# Altium footprint library Flow_Pump.PcbLib: 52 footprints (part 3 of 4)
Each footprint in its own frame and in the unit in brackets; x right, y up, seen from the top. Pads: shape width x height; smd on the part's side, far side on the other; paste and mask are expansions set on the pad; w line width, h text height; cw(c..) or ccw(c..) is an arc to the next point about the centre after c.
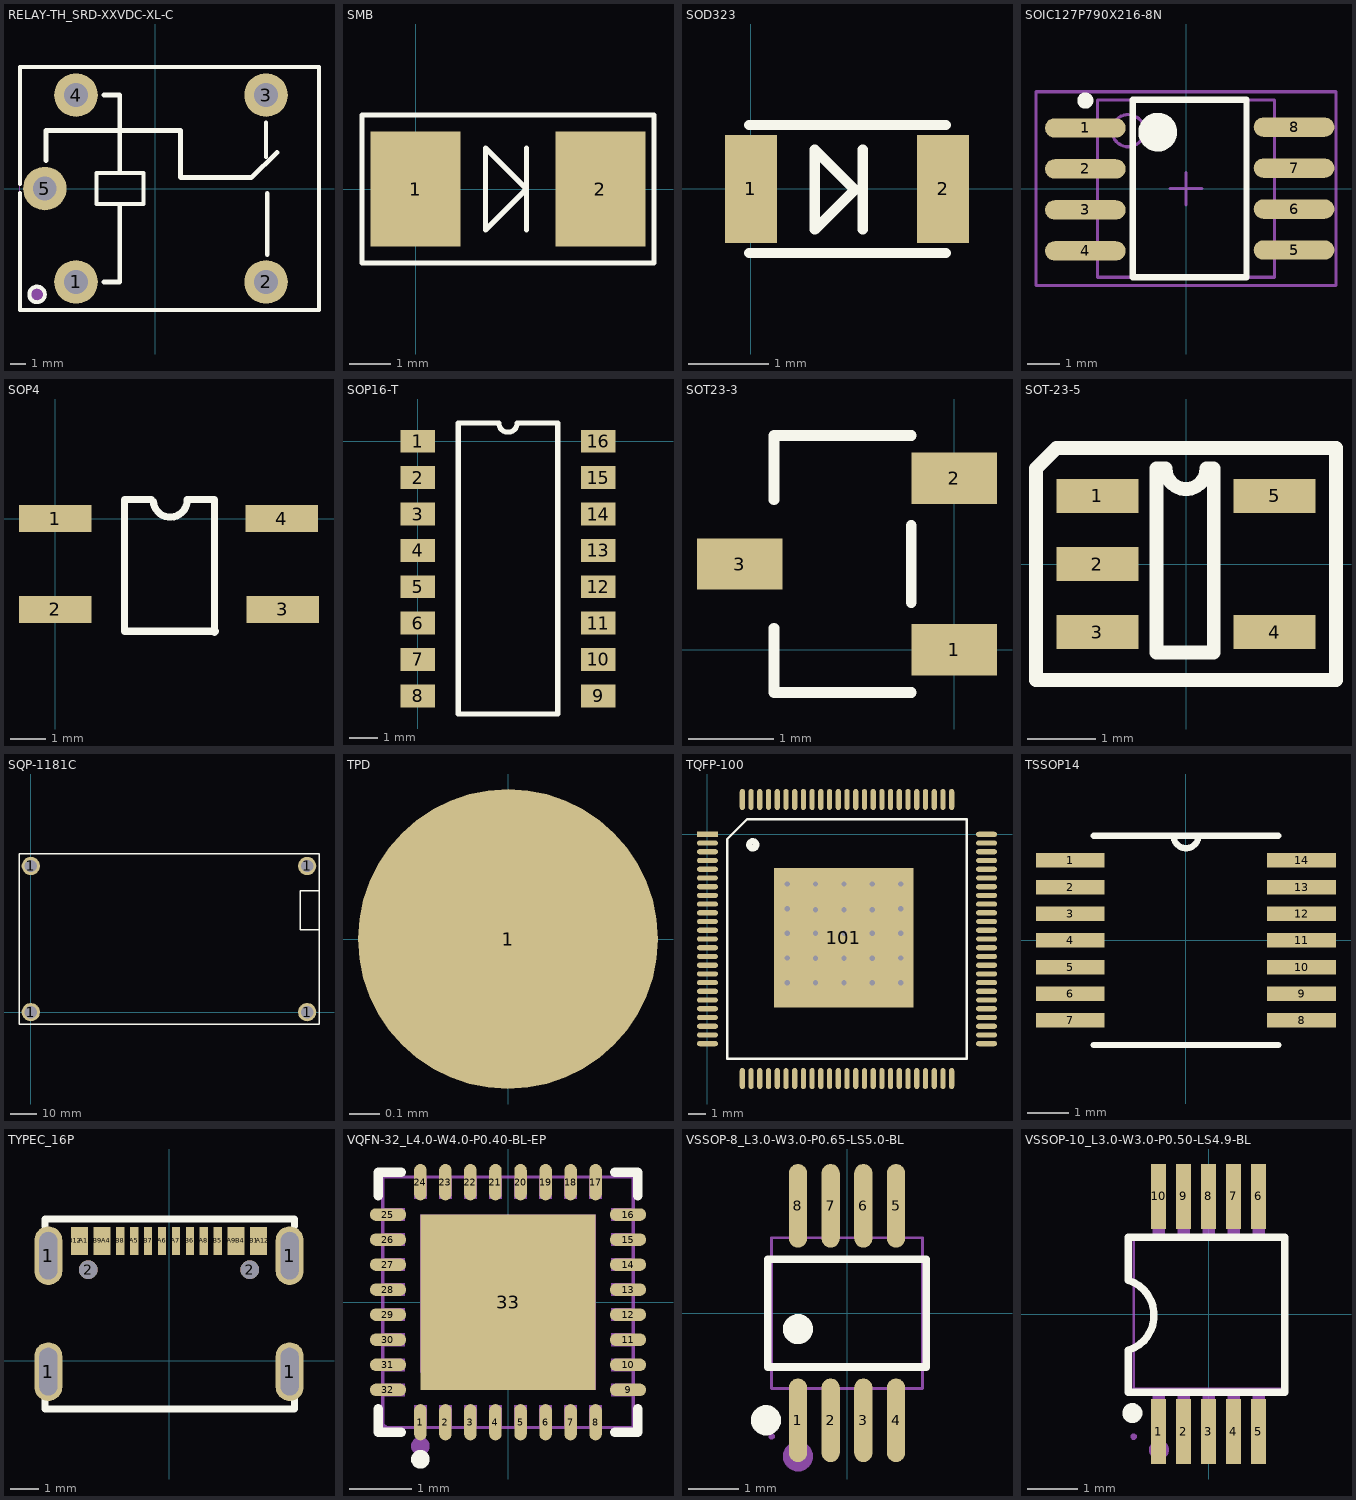
[diagram p2: the footprints below, top view; thin cyan lines are the x and y axes]

## RELAY-TH_SRD-XXVDC-XL-C [mil]
pads (5):
  round 110 hole 60: 1(-200.79,-236.22) 2(279.54,-236.2) 3(279.53,236.2) 4(-200.79,236.22) 5(-279.53,0)
Top Overlay:
  circle w10: c-299.21,-267.72 r19.69
  lines w10: -342.49,-11.6 -342.49,-307.09 413.43,-307.09 ; -342.49,11.6 -342.49,307.09 413.42,307.09 413.43,-307.09 ; 279.5,79.5 279.5,167.2 ; -148.62,-39.37 -30.51,-39.37 -30.51,39.37 -148.62,39.37 -148.62,-39.37
  lines w11.81: -276.84,70.87 -276.84,146.74 63.16,146.74 63.16,28.63 64.11,27.68 222.22,27.68 242.22,27.68 ; -130.31,-236.22 -90.24,-236.22 -90.24,-41.39 ; -130.31,236.22 -90.24,236.22 -90.24,41.37 ; 242.13,27.6 307.11,90.9 ; 282.22,-167.6 282.22,-12.3
Mechanical 6:
  circle w19.68: c-299.21,-267.72 r9.84
Mechanical 15:
  region: 299.21,-246.04 259.85,-246.04 259.85,-226.36 299.21,-226.36
  region: 299.21,226.36 259.85,226.36 259.85,246.04 299.21,246.04
  region: -271.66,21.65 -271.66,-21.65 -287.4,-21.65 -287.4,21.65
  region: -188.97,-236.22 -189.02,-233.9 -190.86,-229.64 -194.17,-226.39 -198.47,-224.64 -203.11,-224.64 -207.4,-226.39 -210.72,-229.64 -212.56,-233.9 -212.6,-236.22 -212.56,-238.54 -210.72,-242.8 -207.4,-246.05 -203.11,-247.81 -198.47,-247.81 -194.17,-246.05 -190.86,-242.8 -189.02,-238.54 -188.97,-236.22
  region: -188.97,236.22 -189.02,238.54 -190.86,242.8 -194.17,246.05 -198.47,247.8 -203.11,247.8 -207.4,246.05 -210.72,242.8 -212.56,238.54 -212.6,236.22 -212.56,233.9 -210.72,229.64 -207.4,226.39 -203.11,224.63 -198.47,224.63 -194.17,226.39 -190.86,229.64 -189.02,233.9 -188.97,236.22
  region: -340.16,-307.07 -340.16,-306.09 -341.54,-304.71 -343.5,-304.71 -344.88,-306.09 -344.88,-307.07 -344.88,-308.05 -343.5,-309.43 -341.54,-309.43 -340.16,-308.05 -340.16,-307.07
  lines w2: -342.52,-307.07 413.39,-307.07 413.39,307.09 -342.52,307.09 -342.52,-307.07

## SMB [mm]
pads (2):
  rect 2.2x2.8 smd: 1(0,0) 2(4.5,0)
Top Overlay:
  lines w0.127: 2.7,-1 2.7,1 ; -1.3,-1.8 -1.3,1.8 5.8,1.8 5.8,-1.8 -1.3,-1.8 ; 1.7,-1 1.7,1 2.7,0 1.7,-1

## SOD323 [mm]
pads (2):
  rect 0.65x1.35 smd: 1(0,0) 2(2.4,0)
Top Overlay:
  lines w0.127: -0.025,-0.8 2.438,-0.8 ; -0.025,0.8 2.438,0.8 ; 1.397,-0.508 1.397,0.492 ; 0.797,-0.508 1.297,-0.008 0.797,0.492 0.797,-0.508

## SOIC127P790X216-8N [mm] "SOIC, 8-Leads, Body 5.5x5.5mm (max), Pitch 1.27mm, IPC Medium Density"
height 2.16
pads (8):
  oval 2.5x0.6 smd: 1(-3.121,1.88) 2(-3.121,0.61) 3(-3.121,-0.66) 4(-3.121,-1.93) 5(3.35,-1.905) 6(3.35,-0.635) 7(3.35,0.635) 8(3.35,1.905)
Top Overlay:
  circle w0.25: c-3.121,2.73 r0.125
  circle w0.6: c-0.875,1.75 r0.3
  lines w0.2: -1.646,2.725 -1.646,-2.75 1.875,-2.75 1.875,2.75 -1.646,2.75
Mechanical 13:
  circle w0.1: c-1.795,1.795 r0.5
  lines w0.1: -2.745,-2.745 -2.745,2.745 2.745,2.745 2.745,-2.745 -2.745,-2.745
Mechanical 15:
  lines w0.1: -0.5,0 0.5,0 ; 0,-0.5 0,0.5 ; -4.65,-3 -4.65,3 4.65,3 4.65,-3 -4.65,-3
3D body: height 2.16, standoff 0.1, extent -2.745,-2.745 2.745,2.745

## SOP4 [mil]
height 318.9
pads (4):
  rect 80x30 smd: 1(0,0) 2(0,-100) 3(250,-100) 4(249,0)
Top Overlay:
  lines w7.87: 105.59,21 76,21 76,-124 176,-124 ; 107.7,18.89 ccw(c126.34,20.22) 145,21 175,21 175,-125

## SOP16-T [mm]
height 0.75
pads (16):
  rect 1.2x0.8 smd: 1(0,0) 2(0,-1.27) 3(0,-2.54) 4(0,-3.81) 5(0,-5.08) 6(0,-6.35) 7(0,-7.62) 8(0,-8.89) 9(6.3,-8.89) 10(6.3,-7.62) 11(6.3,-6.35) 12(6.3,-5.08) 13(6.3,-3.81) 14(6.3,-2.54) 15(6.3,-1.27) 16(6.3,0)
Top Overlay:
  lines w0.18: 1.415,-9.525 4.885,-9.525 4.885,0.635 3.467,0.635 cw(c3.15,0.635) 2.832,0.635 1.415,0.635 1.415,-9.525

## SOT23-3 [mm]
pads (3):
  rect 1x0.6 smd: 1(0,0) 2(0,2) 3(-2.5,1)
Top Overlay:
  lines w0.127: -2.1,0.25 -2.1,-0.5 -0.5,-0.5 ; -2.1,1.75 -2.1,2.5 -0.5,2.5 ; -0.5,0.55 -0.5,1.45

## SOT-23-5 [mm]
height 1.76
pads (5):
  rect 1.2x0.5 smd: 1(-1.3,1) 2(-1.3,0) 3(-1.3,-1) 4(1.3,-1) 5(1.3,1)
Top Overlay:
  lines w0.203: -2.2,-1.7 2.2,-1.7 2.2,1.7 -1.9,1.7 -2.2,1.4 -2.2,-1.7 ; -0.432,-1.3 0.406,-1.3 0.406,1.4 0.3,1.4 cw(c0,1.4) -0.3,1.4 -0.432,1.4 -0.432,-1.3

## SQP-1181C [mm]
height 0.7
pads (4):
  round 7 hole 4.7: 1(0,0) 1(0,55.88) 1(105.65,0) 1(105.65,55.88)
Top Overlay:
  lines w0.508: 110.18,31.44 102.997,31.44 102.997,46.317 110.18,46.317 ; -4.52,-4.7 110.18,-4.7 110.18,59.101 110.18,60.63 -4.52,60.63 -4.52,-4.7

## TPD [mm]
height 1.4
pads (1):
  round 1 smd: 1(0,0)

## TQFP-100 [mm]
pads (101):
  rect 1.2x0.3 smd: 1(0,0)
  oval 1.2x0.3 smd: 2(0,-0.5) 3(0,-1) 4(0,-1.5) 5(0,-2) 6(0,-2.5) 7(0,-3) 8(0,-3.5) 9(0,-4) 10(0,-4.5) 11(0,-5) 12(0,-5.5) 13(0,-6) 14(0,-6.5) 15(0,-7) 16(0,-7.5) 17(0,-8) 18(0,-8.5) 19(0,-9) 20(0,-9.5) 21(0,-10) 22(0,-10.5) 23(0,-11) 24(0,-11.5) 25(0,-12) 51(16,-12) 52(16,-11.5) 53(16,-11) 54(16,-10.5) 55(16,-10) 56(16,-9.5) 57(16,-9) 58(16,-8.5) 59(16,-8) 60(16,-7.5) 61(16,-7) 62(16,-6.5) 63(16,-6) 64(16,-5.5) 65(16,-5) 66(16,-4.5) 67(16,-4) 68(16,-3.5) 69(16,-3) 70(16,-2.5) 71(16,-2) 72(16,-1.5) 73(16,-1) 74(16,-0.5) 75(16,0)
  oval 0.3x1.2 smd: 26(2,-14) 27(2.5,-14) 28(3,-14) 29(3.5,-14) 30(4,-14) 31(4.5,-14) 32(5,-14) 33(5.5,-14) 34(6,-14) 35(6.5,-14) 36(7,-14) 37(7.5,-14) 38(8,-14) 39(8.5,-14) 40(9,-14) 41(9.5,-14) 42(10,-14) 43(10.5,-14) 44(11,-14) 45(11.5,-14) 46(12,-14) 47(12.5,-14) 48(13,-14) 49(13.5,-14) 50(14,-14) 76(14,2) 77(13.5,2) 78(13,2) 79(12.5,2) 80(12,2) 81(11.5,2) 82(11,2) 83(10.5,2) 84(10,2) 85(9.5,2) 86(9,2) 87(8.5,2) 88(8,2) 89(7.5,2) 90(7,2) 91(6.5,2) 92(6,2) 93(5.5,2) 94(5,2) 95(4.5,2) 96(4,2) 97(3.5,2) 98(3,2) 99(2.5,2) 100(2,2)
  rect 8x8 smd: 101(7.823,-5.918)
via 11.074,-7.093 diameter 0.508 hole 0.305
via 9.449,-7.112 diameter 0.508 hole 0.305
via 7.823,-7.112 diameter 0.508 hole 0.305
via 6.198,-7.112 diameter 0.508 hole 0.305
via 4.572,-7.093 diameter 0.508 hole 0.305
via 11.074,-5.677 diameter 0.508 hole 0.305
via 9.449,-5.664 diameter 0.508 hole 0.305
via 7.823,-5.664 diameter 0.508 hole 0.305
via 6.198,-5.664 diameter 0.508 hole 0.305
via 4.572,-5.677 diameter 0.508 hole 0.305
via 11.074,-4.261 diameter 0.508 hole 0.305
via 9.449,-4.318 diameter 0.508 hole 0.305
via 7.823,-4.318 diameter 0.508 hole 0.305
via 6.198,-4.318 diameter 0.508 hole 0.305
via 4.572,-4.261 diameter 0.508 hole 0.305
via 4.572,-2.845 diameter 0.508 hole 0.305
via 6.198,-2.845 diameter 0.508 hole 0.305
via 7.823,-2.845 diameter 0.508 hole 0.305
via 9.449,-2.845 diameter 0.508 hole 0.305
via 11.074,-2.845 diameter 0.508 hole 0.305
via 4.572,-8.509 diameter 0.508 hole 0.305
via 6.198,-8.509 diameter 0.508 hole 0.305
via 7.823,-8.509 diameter 0.508 hole 0.305
via 9.449,-8.509 diameter 0.508 hole 0.305
via 11.074,-8.509 diameter 0.508 hole 0.305
Top Overlay:
  circle w0.361: c2.6,-0.6 r0.2
  lines w0.127: 1.135,-12.865 1.135,-0.27 2.27,0.865 14.865,0.865 14.865,-12.865 1.135,-12.865

## TSSOP14 [mil]
height 29.53
pads (14):
  rect 66x14 smd: 1(-111,76.77) 2(-111,51.18) 3(-111,25.59) 4(-111,0) 5(-111,-25.59) 6(-111,-51.18) 7(-111,-76.77) 8(111,-76.77) 9(111,-51.18) 10(111,-25.59) 11(111,0) 12(111,25.59) 13(111,51.18) 14(111,76.77)
Top Overlay:
  lines w6: -88.5,-100.5 88.5,-100.5 ; -88.5,100.5 88.5,100.5 ; -12,100.5 ccw(c0,100.5) 12,100.5

## TYPEC_16P [mm]
pads (22):
  oval 1x2.1 hole 0.65 slot 1.7 at 90 deg: 1(-4.32,-0.391) 1(-4.32,3.759) 1(4.32,-0.391) 1(4.32,3.759)
  round 0.67 hole 0.67: 2(-2.89,3.259) 2(2.89,3.259)
  rect 0.3x1 smd: A1(-3.05,4.293) A4(-2.25,4.293) A5(-1.25,4.293) A6(-0.25,4.293) A7(0.25,4.293) A8(1.25,4.293) A9(2.25,4.293) A12(3.35,4.293) B1(3.05,4.293) B4(2.55,4.293) B5(1.75,4.293) B6(0.75,4.293) B7(-0.75,4.293) B8(-1.75,4.293) B9(-2.55,4.293) B12(-3.35,4.293)
Top Overlay:
  lines w0.254: -4.445,-1.219 -4.445,-1.727 4.495,-1.727 4.495,-1.193 ; -4.445,4.801 -4.445,5.073 4.495,5.073 4.495,4.825

## VQFN-32_L4.0-W4.0-P0.40-BL-EP [mm]
pads (33):
  oval 0.2x0.58 smd paste+0.051: 1(-1.4,-1.917) 2(-1,-1.917) 3(-0.6,-1.917) 4(-0.2,-1.917) 5(0.2,-1.917) 6(0.6,-1.917) 7(1,-1.917) 8(1.4,-1.917) 17(1.4,1.917) 18(1,1.917) 19(0.6,1.917) 20(0.2,1.917) 21(-0.2,1.917) 22(-0.6,1.917) 23(-1,1.917) 24(-1.4,1.917)
  oval 0.58x0.2 smd paste+0.051: 9(1.917,-1.4) 10(1.917,-1) 11(1.917,-0.6) 12(1.917,-0.2) 13(1.917,0.2) 14(1.917,0.6) 15(1.917,1) 16(1.917,1.4) 25(-1.917,1.4) 26(-1.917,1) 27(-1.917,0.6) 28(-1.917,0.2) 29(-1.917,-0.2) 30(-1.917,-0.6) 31(-1.917,-1) 32(-1.917,-1.4)
  rect 2.8x2.8 smd paste+0.051: 33(0,0)
Top Overlay:
  circle w0.15: c-1.4,-2.51 r0.075
  lines w0.152: -2.076,-1.703 -2.076,-2.076 -1.703,-2.076 ; -2.076,1.703 -2.076,2.076 -1.703,2.076 ; 1.703,-2.076 2.076,-2.076 2.076,-1.703 ; 1.703,2.076 2.076,2.076 2.076,1.703
Mechanical 2:
  circle w0.15: c-1.4,-2.3 r0.075
Mechanical 6:
  lines w0.051: -2,-2 2,-2 2,2 -2,2 -2,-2
Mechanical 8:
  region: -1.94,-2 -1.94,-2.025 -1.975,-2.06 -2.025,-2.06 -2.06,-2.025 -2.06,-2 -2.06,-1.975 -2.025,-1.94 -1.975,-1.94 -1.94,-1.975 -1.94,-2
Mechanical 9:
  drawing of 33 lines, arcs and shapes, not listed

## VSSOP-8_L3.0-W3.0-P0.65-LS5.0-BL [mm]
pads (8):
  oval 0.364x1.662 smd paste+0.051: 1(-0.975,-2.131) 2(-0.325,-2.131) 3(0.325,-2.131) 4(0.975,-2.131) 5(0.975,2.131) 6(0.325,2.131) 7(-0.325,2.131) 8(-0.975,2.131)
Top Overlay:
  circle w0.3: c-0.975,-0.319 r0.15
  circle w0.3: c-1.609,-2.131 r0.15
  lines w0.152: -1.576,-1.071 -1.576,1.071 1.576,1.071 1.576,-1.071 -1.576,-1.071
Mechanical 2:
  circle w0.3: c-0.975,-2.85 r0.15
Mechanical 6:
  lines w0.051: -1.5,-1.5 -1.5,1.5 1.5,1.5 1.5,-1.5 -1.5,-1.5
Mechanical 7:
  region: -1.133,-1.91 -1.133,-1.49 -0.817,-1.49 -0.817,-1.91
  region: -0.482,-1.91 -0.482,-1.49 -0.167,-1.49 -0.167,-1.91
  region: 0.167,-1.91 0.167,-1.49 0.482,-1.49 0.482,-1.91
  region: 0.817,-1.91 0.817,-1.49 1.133,-1.49 1.133,-1.91
  region: -1.133,1.91 -1.133,1.49 -0.817,1.49 -0.817,1.91
  region: -0.482,1.91 -0.482,1.49 -0.167,1.49 -0.167,1.91
  region: 0.167,1.91 0.167,1.49 0.482,1.49 0.482,1.91
  region: 0.817,1.91 0.817,1.49 1.133,1.49 1.133,1.91
Mechanical 8:
  region: -1.44,-2.45 -1.44,-2.475 -1.475,-2.51 -1.525,-2.51 -1.56,-2.475 -1.56,-2.45 -1.56,-2.425 -1.525,-2.39 -1.475,-2.39 -1.44,-2.425 -1.44,-2.45
Mechanical 9:
  region: -1.133,-2.45 -1.133,-1.9 -0.817,-1.9 -0.817,-2.45
  region: -0.482,-2.45 -0.482,-1.9 -0.167,-1.9 -0.167,-2.45
  region: 0.167,-2.45 0.167,-1.9 0.482,-1.9 0.482,-2.45
  region: 0.817,-2.45 0.817,-1.9 1.133,-1.9 1.133,-2.45
  region: -1.133,2.45 -1.133,1.9 -0.817,1.9 -0.817,2.45
  region: -0.482,2.45 -0.482,1.9 -0.167,1.9 -0.167,2.45
  region: 0.167,2.45 0.167,1.9 0.482,1.9 0.482,2.45
  region: 0.817,2.45 0.817,1.9 1.133,1.9 1.133,2.45

## VSSOP-10_L3.0-W3.0-P0.50-LS4.9-BL [mm]
pads (10):
  rect 0.3x1.3 smd paste+0 mask+0.051: 1(-1,-2.35) 2(-0.5,-2.35) 3(0,-2.35) 4(0.5,-2.35) 5(1,-2.35) 6(1,2.35) 7(0.5,2.35) 8(0,2.35) 9(-0.5,2.35) 10(-1,2.35)
Top Overlay:
  circle w0.2: c-1.524,-1.981 r0.1
  lines w0.15: -1.603,-1.562 -1.603,-0.724 ccw(c-1.82,-0.026) -1.603,0.673 ; -1.603,0.698 -1.603,1.537 ; -1.578,-1.562 1.522,-1.562 ; -1.578,1.537 1.522,1.537 1.522,-1.564
Mechanical 2:
  circle w0.2: c-0.99,-2.718 r0.1
Mechanical 6:
  lines w0.051: -1.5,-1.5 1.5,-1.5 1.5,1.5 -1.5,1.5 -1.5,-1.5
Mechanical 7:
  region: -1.12,1.49 -1.12,1.91 -0.88,1.91 -0.88,1.49
  region: -0.62,1.49 -0.62,1.91 -0.38,1.91 -0.38,1.49
  region: -0.12,1.49 -0.12,1.91 0.12,1.91 0.12,1.49
  region: 0.38,1.49 0.38,1.91 0.62,1.91 0.62,1.49
  region: 0.88,1.49 0.88,1.91 1.12,1.91 1.12,1.49
  region: 0.88,-1.91 0.88,-1.49 1.12,-1.49 1.12,-1.91
  region: 0.38,-1.91 0.38,-1.49 0.62,-1.49 0.62,-1.91
  region: -0.12,-1.91 -0.12,-1.49 0.12,-1.49 0.12,-1.91
  region: -0.62,-1.91 -0.62,-1.49 -0.38,-1.49 -0.38,-1.91
  region: -1.12,-1.91 -1.12,-1.49 -0.88,-1.49 -0.88,-1.91
Mechanical 8:
  region: -1.44,-2.45 -1.44,-2.475 -1.475,-2.51 -1.525,-2.51 -1.56,-2.475 -1.56,-2.45 -1.56,-2.425 -1.525,-2.39 -1.475,-2.39 -1.44,-2.425 -1.44,-2.45
Mechanical 9:
  region: -1.12,1.9 -1.12,2.45 -0.88,2.45 -0.88,1.9
  region: -0.62,1.9 -0.62,2.45 -0.38,2.45 -0.38,1.9
  region: -0.12,1.9 -0.12,2.45 0.12,2.45 0.12,1.9
  region: 0.38,1.9 0.38,2.45 0.62,2.45 0.62,1.9
  region: 0.88,1.9 0.88,2.45 1.12,2.45 1.12,1.9
  region: 0.88,-2.45 0.88,-1.9 1.12,-1.9 1.12,-2.45
  region: 0.38,-2.45 0.38,-1.9 0.62,-1.9 0.62,-2.45
  region: -0.12,-2.45 -0.12,-1.9 0.12,-1.9 0.12,-2.45
  region: -0.62,-2.45 -0.62,-1.9 -0.38,-1.9 -0.38,-2.45
  region: -1.12,-2.45 -1.12,-1.9 -0.88,-1.9 -0.88,-2.45